# EAGLE library part ATTINY85 (library Dennistries-Josh)
ATTiny85 ATTiny85 Microcontroller
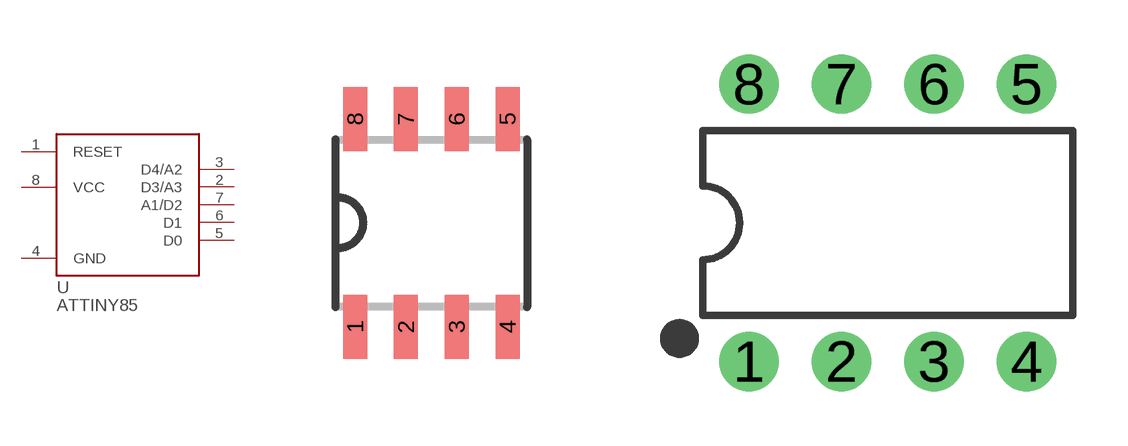
[diagram p12: symbol with the pads of SOP8; footprints SOP8, DIP8]

Designator prefix -

## ATTINY85SMD  [SOP8]
1  RESET
2  D3/A3
3  D4/A2
4  GND
5  D0
6  D1
7  A1/D2
8  VCC

## ATTINY85THROUGH_HOLE  [DIP8]
Pads as for SOP8

## Footprint SOP8 (pad centres in mm)
SOP8 Source: http://www.rohm.com/products/databook/motor/pdf/bd623x_series-e.pdf
smd 0.6 x 1.6: 1 -1.905,-2.6; 2 -0.635,-2.6; 3 0.635,-2.6; 4 1.905,-2.6; 5 1.905,2.6; 6 0.635,2.6; 7 -0.635,2.6; 8 -1.905,2.6

## Footprint DIP8 (pad centres in mm)
drill 0.813 pad 1.626: 1 -3.81,-3.81; 2 -1.27,-3.81; 3 1.27,-3.81; 4 3.81,-3.81; 5 3.81,3.81; 6 1.27,3.81; 7 -1.27,3.81; 8 -3.81,3.81